# Altium footprint library PcbLib1.PcbLib: 1 footprints
Each footprint in its own frame and in the unit in brackets; x right, y up, seen from the top. Pads: shape width x height; smd on the part's side, far side on the other; paste and mask are expansions set on the pad; w line width, h text height; cw(c..) or ccw(c..) is an arc to the next point about the centre after c.
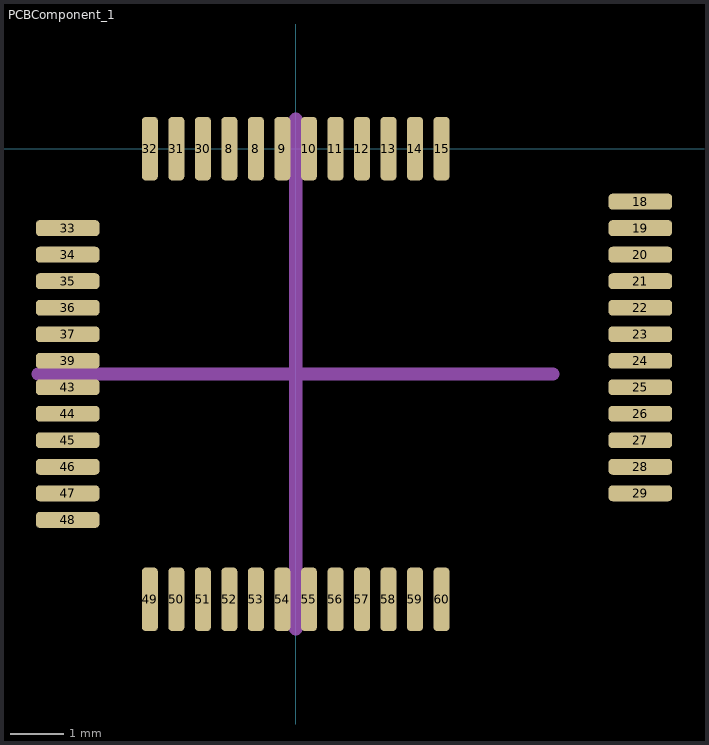
[diagram p0: the footprint, top view; thin cyan lines are the x and y axes]

## PCBComponent_1 [mm]
pads (48):
  rrect50% 0.3x1.2 smd: 8(-1.25,0) 8(-0.75,0) 9(-0.25,0) 10(0.25,0) 11(0.75,0) 12(1.25,0) 13(1.75,0) 14(2.25,0) 15(2.75,0) 30(-1.75,0) 31(-2.25,0) 32(-2.75,0) 49(-2.75,-8.5) 50(-2.25,-8.5) 51(-1.75,-8.5) 52(-1.25,-8.5) 53(-0.75,-8.5) 54(-0.25,-8.5) 55(0.25,-8.5) 56(0.75,-8.5) 57(1.25,-8.5) 58(1.75,-8.5) 59(2.25,-8.5) 60(2.75,-8.5)
  rrect50% 1.2x0.3 smd: 18(6.5,-1) 19(6.5,-1.5) 20(6.5,-2) 21(6.5,-2.5) 22(6.5,-3) 23(6.5,-3.5) 24(6.5,-4) 25(6.5,-4.5) 26(6.5,-5) 27(6.5,-5.5) 28(6.5,-6) 29(6.5,-6.5) 33(-4.3,-1.5) 34(-4.3,-2) 35(-4.3,-2.5) 36(-4.3,-3) 37(-4.3,-3.5) 39(-4.3,-4) 43(-4.3,-4.5) 44(-4.3,-5) 45(-4.3,-5.5) 46(-4.3,-6) 47(-4.3,-6.5) 48(-4.3,-7)
Top Designator:
  lines w0.254: -4.85,-4.25 0,-4.25 4.85,-4.25 ; 0,-9.05 0,0.55